# Altium footprint library Basic.PcbLib: 23 footprints (part 1 of 2)
Each footprint in its own frame and in the unit in brackets; x right, y up, seen from the top. Pads: shape width x height; smd on the part's side, far side on the other; paste and mask are expansions set on the pad; w line width, h text height; cw(c..) or ccw(c..) is an arc to the next point about the centre after c.
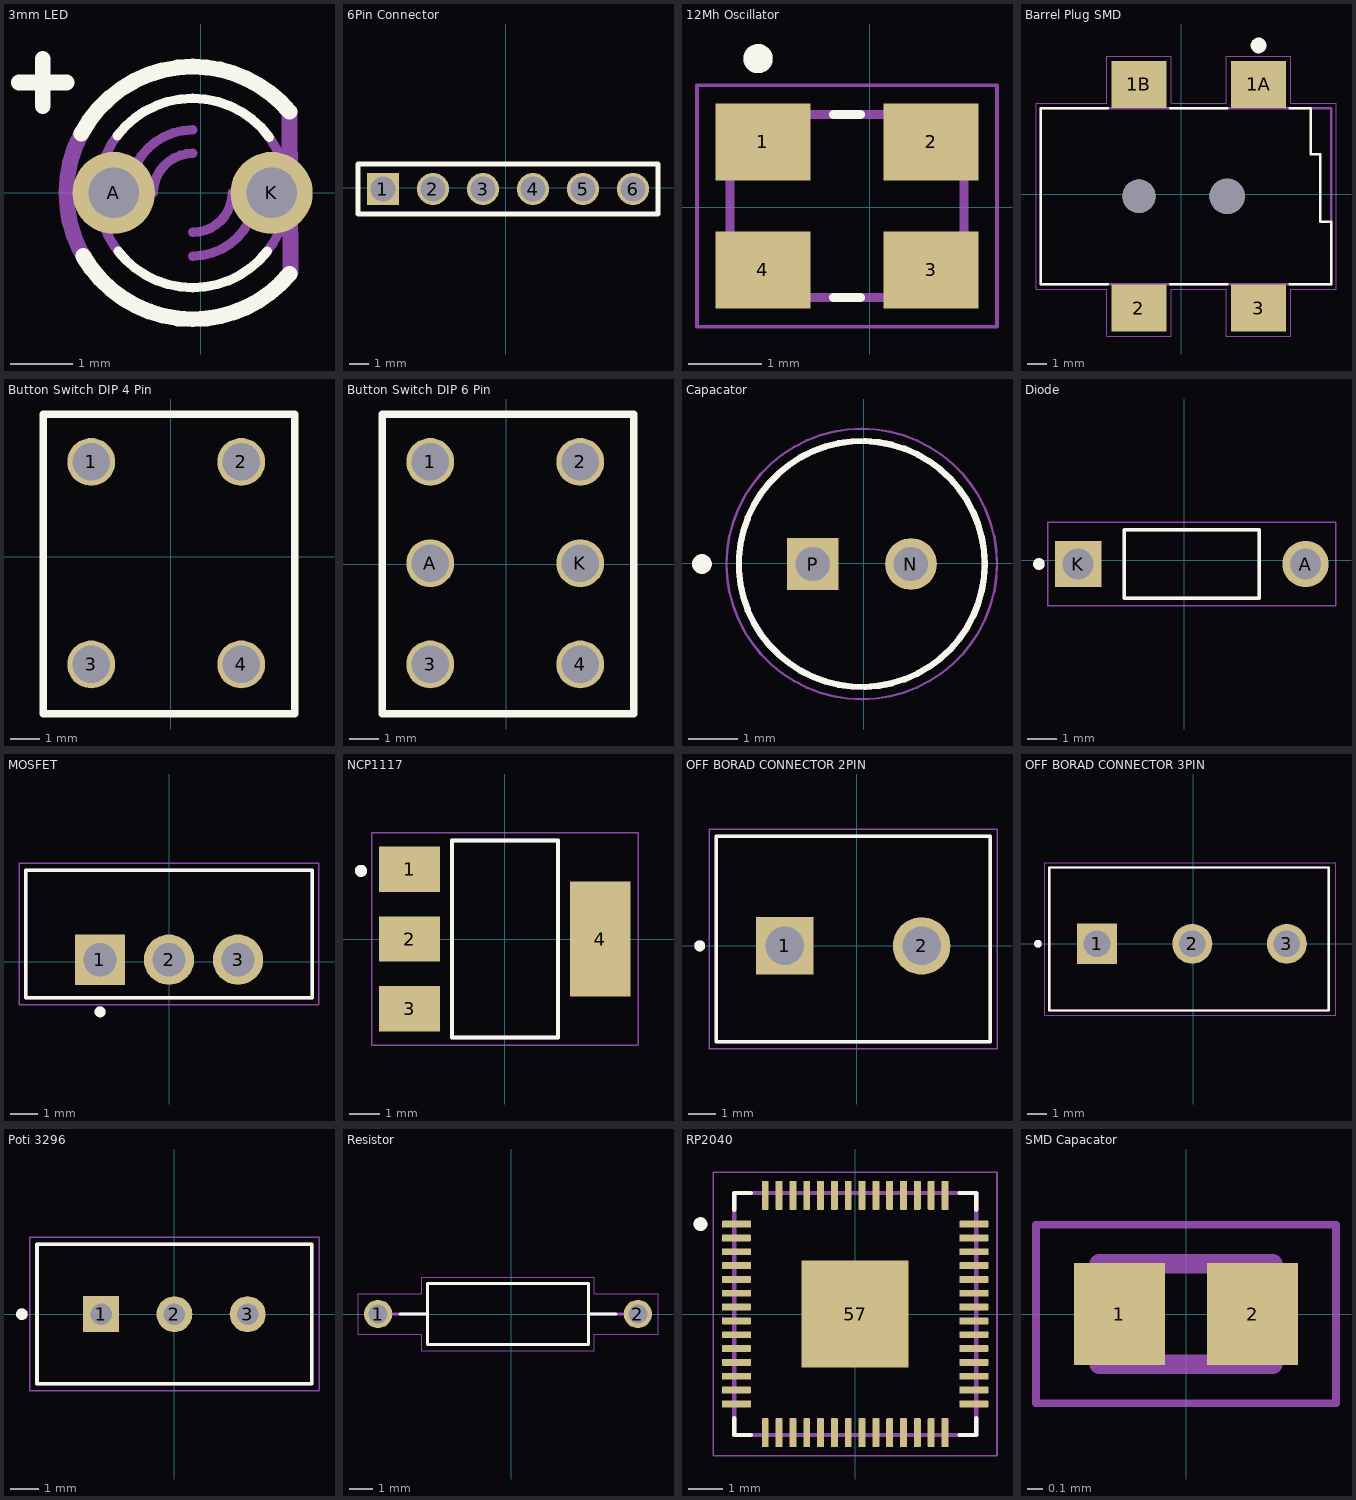
[diagram p0: the footprints below, top view; thin cyan lines are the x and y axes]

## 3mm LED [mil] "Blue, Red, Yellow, Green, White"
height 5
pads (2):
  round 52 hole 32: A(-55,0) K(45,0)
Top Overlay:
  lines w6: -52.92,36.11 cw(c-5,0) -5,60 cw(c-5,0) 43.54,35.27 ; -52.28,-36.94 ccw(c-5,0) -5,-60 ccw(c-5,0) 42.28,-36.94
  lines w10: -115,70 -85,70 -100,70 ; -100,55 -100,85 ; -75.63,37.56 cw(c-5,0) -5,80 cw(c-5,0) 56.28,51.42 ; -74.28,-40 ccw(c-5,0) -5,-80 ccw(c-5,0) 56.29,-51.42
Mechanical 13:
  lines w6: -50.96,38.57 ccw(c-5,0) -65,0 ccw(c-5,0) -49.59,-40.15 ; -45,0 cw(c-5,0) -5,40 ; -30,0 cw(c-5,0) -5,25 ; -5,-40 ccw(c-5,0) 35,0 ; -5,-25 ccw(c-5,0) 20,0 ; 40.28,39.36 cw(c-5,0) 55,0 cw(c-5,0) 40.96,-38.57
  lines w10: -75.64,37.56 ccw(c-5,0) -85,0 ccw(c-5,0) -72.84,-42.4 ; 56.28,51.42 57,-50
3D body: height 196.85, standoff 0, extent -64.56,-59.06 53.55,59.06

## 6Pin Connector [mm]
pads (6):
  rect 1.62x1.62 hole 1.27: 1(-6.228,-0.065)
  round 1.62 hole 1.27: 2(-3.688,-0.065) 3(-1.148,-0.065) 4(1.392,-0.065) 5(3.932,-0.065) 6(6.472,-0.065)
Top Overlay:
  lines w0.254: -7.498,-1.335 7.742,-1.335 7.742,1.205 -7.498,1.205 -7.498,-1.335
3D body "6PinConnector.stp": height 6, standoff -2.7, extent -5.873,-1 6.127,1

## 12Mh Oscillator [mm]
pads (4):
  rect 1.3x1.05 smd: 1(-1.459,0.893) 2(0.841,0.893) 3(0.841,-0.857) 4(-1.459,-0.857)
Top Overlay:
  circle w0.2: c-1.524,2.032 r0.1
  lines w0.127: -0.489,-1.232 -0.129,-1.232 ; -0.489,1.268 -0.129,1.268
Mechanical 13:
  circle w0.2: c-1.524,2.032 r0.1
  lines w0.127: -1.909,-1.232 1.291,-1.232 1.291,1.268 -1.909,1.268 -1.909,-1.232
Mechanical 15:
  lines w0.05: -2.359,-1.632 1.741,-1.632 1.741,1.668 -2.359,1.668 -2.359,-1.632
3D body "step_temp.STEP": height 0.8, standoff 0, extent -1.909,-1.232 1.291,1.268

## Barrel Plug SMD [mm]
pads (6):
  rect 2.8x2.4 smd: 1A(3.937,5.588) 1B(-2.163,5.588) 2(-2.163,-5.812) 3(3.937,-5.812)
  round 1.7 hole 1.7 unplated: ""(-2.163,-0.112)
  round 1.8 hole 1.8 unplated: ""(2.337,-0.112)
Top Overlay:
  circle w0.4: c3.937,7.578 r0.2
  lines w0.127: -3.763,-4.612 -7.163,-4.612 -7.163,4.388 -3.763,4.388 ; -0.563,-4.612 2.337,-4.612 ; -0.563,4.388 2.337,4.388 ; 5.537,-4.612 7.637,-4.612 7.637,-1.412 7.087,-1.412 7.087,2.038 6.587,2.038 6.587,4.388 5.537,4.388
Mechanical 13:
  lines w0.127: -7.163,-4.612 7.637,-4.612 7.637,4.388 -7.163,4.388 -7.163,-4.612
Mechanical 15:
  lines w0.05: -7.413,-4.862 -7.413,4.638 -3.813,4.638 -3.813,7.038 -0.513,7.038 -0.513,4.638 2.287,4.638 2.287,7.038 5.587,7.038 5.587,4.638 7.887,4.638 7.887,-4.862 5.587,-4.862 5.587,-7.262 2.287,-7.262 2.287,-4.862 -0.513,-4.862 -0.513,-7.262 -3.813,-7.262 -3.813,-4.862 -7.413,-4.862
3D body "BarrelPlugSMD.step": height 11, standoff -0.8, extent -7.196,-6.35 7.704,6.25

## Button Switch DIP 4 Pin [mm]
pads (4):
  round 1.62 hole 1.27: 1(-2.697,3.203) 2(2.383,3.203) 3(-2.697,-3.655) 4(2.383,-3.655)
Top Overlay:
  lines w0.254: -4.318,-5.334 4.191,-5.334 4.191,4.826 -4.318,4.826 -4.318,-5.334
3D body: height 6, standoff 0, extent -3.937,-4.953 3.81,4.445

## Button Switch DIP 6 Pin [mm]
pads (6):
  round 1.62 hole 1.27: 1(-2.57,3.457) 2(2.51,3.457) 3(-2.57,-3.401) 4(2.51,-3.401) A(-2.57,0.028) K(2.51,0.028)
Top Overlay:
  lines w0.254: -4.191,-5.08 4.318,-5.08 4.318,5.08 -4.191,5.08 -4.191,-5.08
3D body: height 6, standoff 0, extent -3.81,-4.699 3.937,4.699

## Capacator [mm]
pads (2):
  round 1.05 hole 0.7: N(0.964,-0.016)
  rect 1.05x1.05 hole 0.7: P(-1.036,-0.016)
Top Overlay:
  circle w0.127: c-0.036,-0.016 r2.5
  circle w0.2: c-3.286,-0.016 r0.1
Mechanical 13:
  circle w0.127: c-0.036,-0.016 r2.5
  circle w0.2: c-3.286,-0.016 r0.1
Mechanical 15:
  circle w0.05: c-0.036,-0.016 r2.75
3D body "step_temp.STEP": height 7, standoff -17, extent -2.536,-2.514 2.464,2.482

## Diode [mm]
pads (2):
  round 1.59 hole 1.06: A(4.159,-0.127)
  rect 1.59x1.59 / inner round 1.59 / far side rect 1.59x1.59 hole 1.06: K(-3.651,-0.127)
Top Overlay:
  circle w0.2: c-4.996,-0.127 r0.1
  lines w0.127: -2.064,-1.307 -2.064,1.053 2.572,1.053 2.572,-1.307 -2.064,-1.307
Mechanical 13:
  circle w0.2: c-4.996,-0.127 r0.1
  lines w0.127: -2.064,-1.307 -2.064,1.053 2.572,1.053 2.572,-1.307 -2.064,-1.307
Mechanical 15:
  lines w0.05: -4.695,-1.557 5.203,-1.557 5.203,1.303 -4.695,1.303 -4.695,-1.557
3D body "step_temp.STEP": height 2.69, standoff -21.77, extent -5.22,-1.473 5.728,1.219

## MOSFET [mm]
pads (3):
  rect 1.85x1.85 / inner round 1.85 / far side rect 1.85x1.85 hole 1.23: 1(-2.54,0.076)
  round 1.85 hole 1.23: 2(0,0.076) 3(2.54,0.076)
Top Overlay:
  circle w0.2: c-2.54,-1.844 r0.1
  lines w0.127: -5.27,-1.334 -5.27,3.366 5.27,3.366 5.27,-1.334 -5.27,-1.334
Mechanical 13:
  circle w0.2: c-2.54,-1.844 r0.1
  lines w0.127: -5.27,-1.334 5.27,-1.334 5.27,3.366 -5.27,3.366 -5.27,-1.334
Mechanical 15:
  lines w0.05: -5.52,-1.584 -5.52,3.616 5.52,3.616 5.52,-1.584 -5.52,-1.584
3D body "step_temp.STEP": height 15.01, standoff -10.39, extent -5.08,-1.651 5.08,2.794

## NCP1117 [mm]
pads (4):
  rect 2x1.5 smd: 1(-3.15,2.3) 2(-3.15,0) 3(-3.15,-2.3)
  rect 2x3.8 smd: 4(3.15,0)
Top Overlay:
  circle w0.2: c-4.75,2.25 r0.1
  lines w0.127: -1.75,-3.25 1.75,-3.25 1.75,3.25 -1.75,3.25 -1.75,-3.25
Mechanical 13:
  circle w0.2: c-4.75,2.25 r0.1
  lines w0.127: -1.75,-3.25 1.75,-3.25 1.75,3.25 -1.75,3.25 -1.75,-3.25
Mechanical 15:
  lines w0.05: -4.4,-3.5 -4.4,3.5 4.4,3.5 4.4,-3.5 -4.4,-3.5

## OFF BORAD CONNECTOR 2PIN [mm]
pads (2):
  rect 2.1x2.1 hole 1.4: 1(-2.627,0)
  round 2.1 hole 1.4: 2(2.373,0)
Top Overlay:
  circle w0.2: c-5.727,0 r0.1
  lines w0.127: -5.127,-3.5 4.873,-3.5 4.873,4 -5.127,4 -5.127,-3.5
Mechanical 13:
  circle w0.2: c-5.727,0 r0.1
  lines w0.127: -5.127,-3.5 -5.127,4 4.873,4 4.873,-3.5 -5.127,-3.5
Mechanical 15:
  lines w0.05: -5.377,-3.75 -5.377,4.25 5.123,4.25 5.123,-3.75 -5.377,-3.75
3D body "OffBoardConnector.STEP": height 10, standoff -4.5, extent -5.681,-3.309 4.919,4.191

## OFF BORAD CONNECTOR 3PIN [mm]
pads (3):
  rect 2.1x2.1 hole 1.4: 1(-5.04,0)
  round 2.1 hole 1.4: 2(-0.04,0) 3(4.913,0)
Top Overlay:
  circle w0.2: c-8.14,0 r0.1
  lines w0.127: -7.54,-3.5 7.112,-3.5 7.112,4 -7.54,4 -7.54,-3.5
Mechanical 13:
  circle w0.2: c-8.14,0 r0.1
  lines w0.127: -7.54,-3.5 -7.54,4 7.112,4 7.112,-3.5 -7.54,-3.5
Mechanical 15:
  lines w0.05: -7.79,-3.75 -7.79,4.25 7.493,4.25 7.493,-3.75 -7.79,-3.75

## Poti 3296 [mm]
pads (3):
  rect 1.248x1.248 hole 0.74: 1(-2.54,0)
  round 1.248 hole 0.74: 2(0,0) 3(2.54,0)
Top Overlay:
  circle w0.2: c-5.29,0 r0.1
  lines w0.127: -4.765,-2.41 4.765,-2.41 4.765,2.42 -4.765,2.42 -4.765,-2.41
Mechanical 13:
  circle w0.2: c-5.29,0 r0.1
  lines w0.127: -4.765,-2.41 4.765,-2.41 4.765,2.42 -4.765,2.42 -4.765,-2.41
Mechanical 15:
  lines w0.05: -5.015,-2.66 5.015,-2.66 5.015,2.67 -5.015,2.67 -5.015,-2.66
3D body "Poti3296.STEP": height 11.55, standoff -7.72, extent -4.765,-2.413 4.765,2.417

## Resistor [mm]
pads (2):
  round 1.2 hole 0.8: 1(-5.627,0) 2(5.373,0)
Top Overlay:
  lines w0.127: -4.707,0 -3.527,0 ; 4.453,0 3.273,0 ; -3.527,0 -3.527,1.3 3.273,1.3 3.273,0 ; -3.527,0 -3.527,-1.3 3.273,-1.3 3.273,0
Mechanical 13:
  lines w0.127: -5.027,0 -3.527,0 ; 4.773,0 3.273,0 ; -3.527,0 -3.527,1.3 3.273,1.3 3.273,0 ; -3.527,0 -3.527,-1.3 3.273,-1.3 3.273,0
Mechanical 15:
  lines w0.05: -6.477,-0.85 -3.777,-0.85 -3.777,-1.55 3.523,-1.55 3.523,-0.85 6.223,-0.85 6.223,0.85 3.523,0.85 3.523,1.55 -3.777,1.55 -3.777,0.85 -6.477,0.85 -6.477,-0.85
3D body "step_temp.STEP": height 2.6, standoff -25.53, extent -5.902,-1.3 5.648,1.3

## RP2040 [mm]
pads (57):
  rrect25% 0.84x0.2 smd: 1(-3.435,2.6) 2(-3.435,2.2) 3(-3.435,1.8) 4(-3.435,1.4) 5(-3.435,1) 6(-3.435,0.6) 7(-3.435,0.2) 8(-3.435,-0.2) 9(-3.435,-0.6) 10(-3.435,-1) 11(-3.435,-1.4) 12(-3.435,-1.8) 13(-3.435,-2.2) 14(-3.435,-2.6) 29(3.435,-2.6) 30(3.435,-2.2) 31(3.435,-1.8) 32(3.435,-1.4) 33(3.435,-1) 34(3.435,-0.6) 35(3.435,-0.2) 36(3.435,0.2) 37(3.435,0.6) 38(3.435,1) 39(3.435,1.4) 40(3.435,1.8) 41(3.435,2.2) 42(3.435,2.6)
  rrect25% 0.2x0.84 smd: 15(-2.6,-3.435) 16(-2.2,-3.435) 17(-1.8,-3.435) 18(-1.4,-3.435) 19(-1,-3.435) 20(-0.6,-3.435) 21(-0.2,-3.435) 22(0.2,-3.435) 23(0.6,-3.435) 24(1,-3.435) 25(1.4,-3.435) 26(1.8,-3.435) 27(2.2,-3.435) 28(2.6,-3.435) 43(2.6,3.435) 44(2.2,3.435) 45(1.8,3.435) 46(1.4,3.435) 47(1,3.435) 48(0.6,3.435) 49(0.2,3.435) 50(-0.2,3.435) 51(-0.6,3.435) 52(-1,3.435) 53(-1.4,3.435) 54(-1.8,3.435) 55(-2.2,3.435) 56(-2.6,3.435)
  rect 3.1x3.1 smd paste-0.57: 57(0,0)
Top Overlay:
  circle w0.2: c-4.475,2.6 r0.1
  lines w0.127: -3.5,-3.02 -3.5,-3.5 -3.02,-3.5 ; -3.5,3.02 -3.5,3.5 -3.02,3.5 ; 3.02,-3.5 3.5,-3.5 3.5,-3.02 ; 3.02,3.5 3.5,3.5 3.5,3.02
Mechanical 13:
  circle w0.2: c-4.475,2.6 r0.1
  lines w0.127: -3.5,-3.5 3.5,-3.5 3.5,3.5 -3.5,3.5 -3.5,-3.5
Mechanical 15:
  lines w0.05: -4.105,-4.105 4.105,-4.105 4.105,4.105 -4.105,4.105 -4.105,-4.105
3D body "step_temp.STEP": height 0.9, standoff 0, extent -3.5,-3.5 3.5,3.5

## SMD Capacator [mm]
pads (2):
  rect 0.6x0.67 smd: 1(-0.437,0) 2(0.437,0)
Mechanical 13:
  lines w0.127: -0.57,-0.33 0.57,-0.33 0.57,0.33 -0.57,0.33 -0.57,-0.33
Mechanical 15:
  lines w0.05: -0.985,-0.585 0.985,-0.585 0.985,0.585 -0.985,0.585 -0.985,-0.585
3D body "GRM155R60J106ME15D.STEP": height 0.5, standoff 0, extent -0.5,-0.33 0.5,0.32